# Altium integrated library National Semiconductor Audio.IntLib: 683 symbols (part 12 of 18)
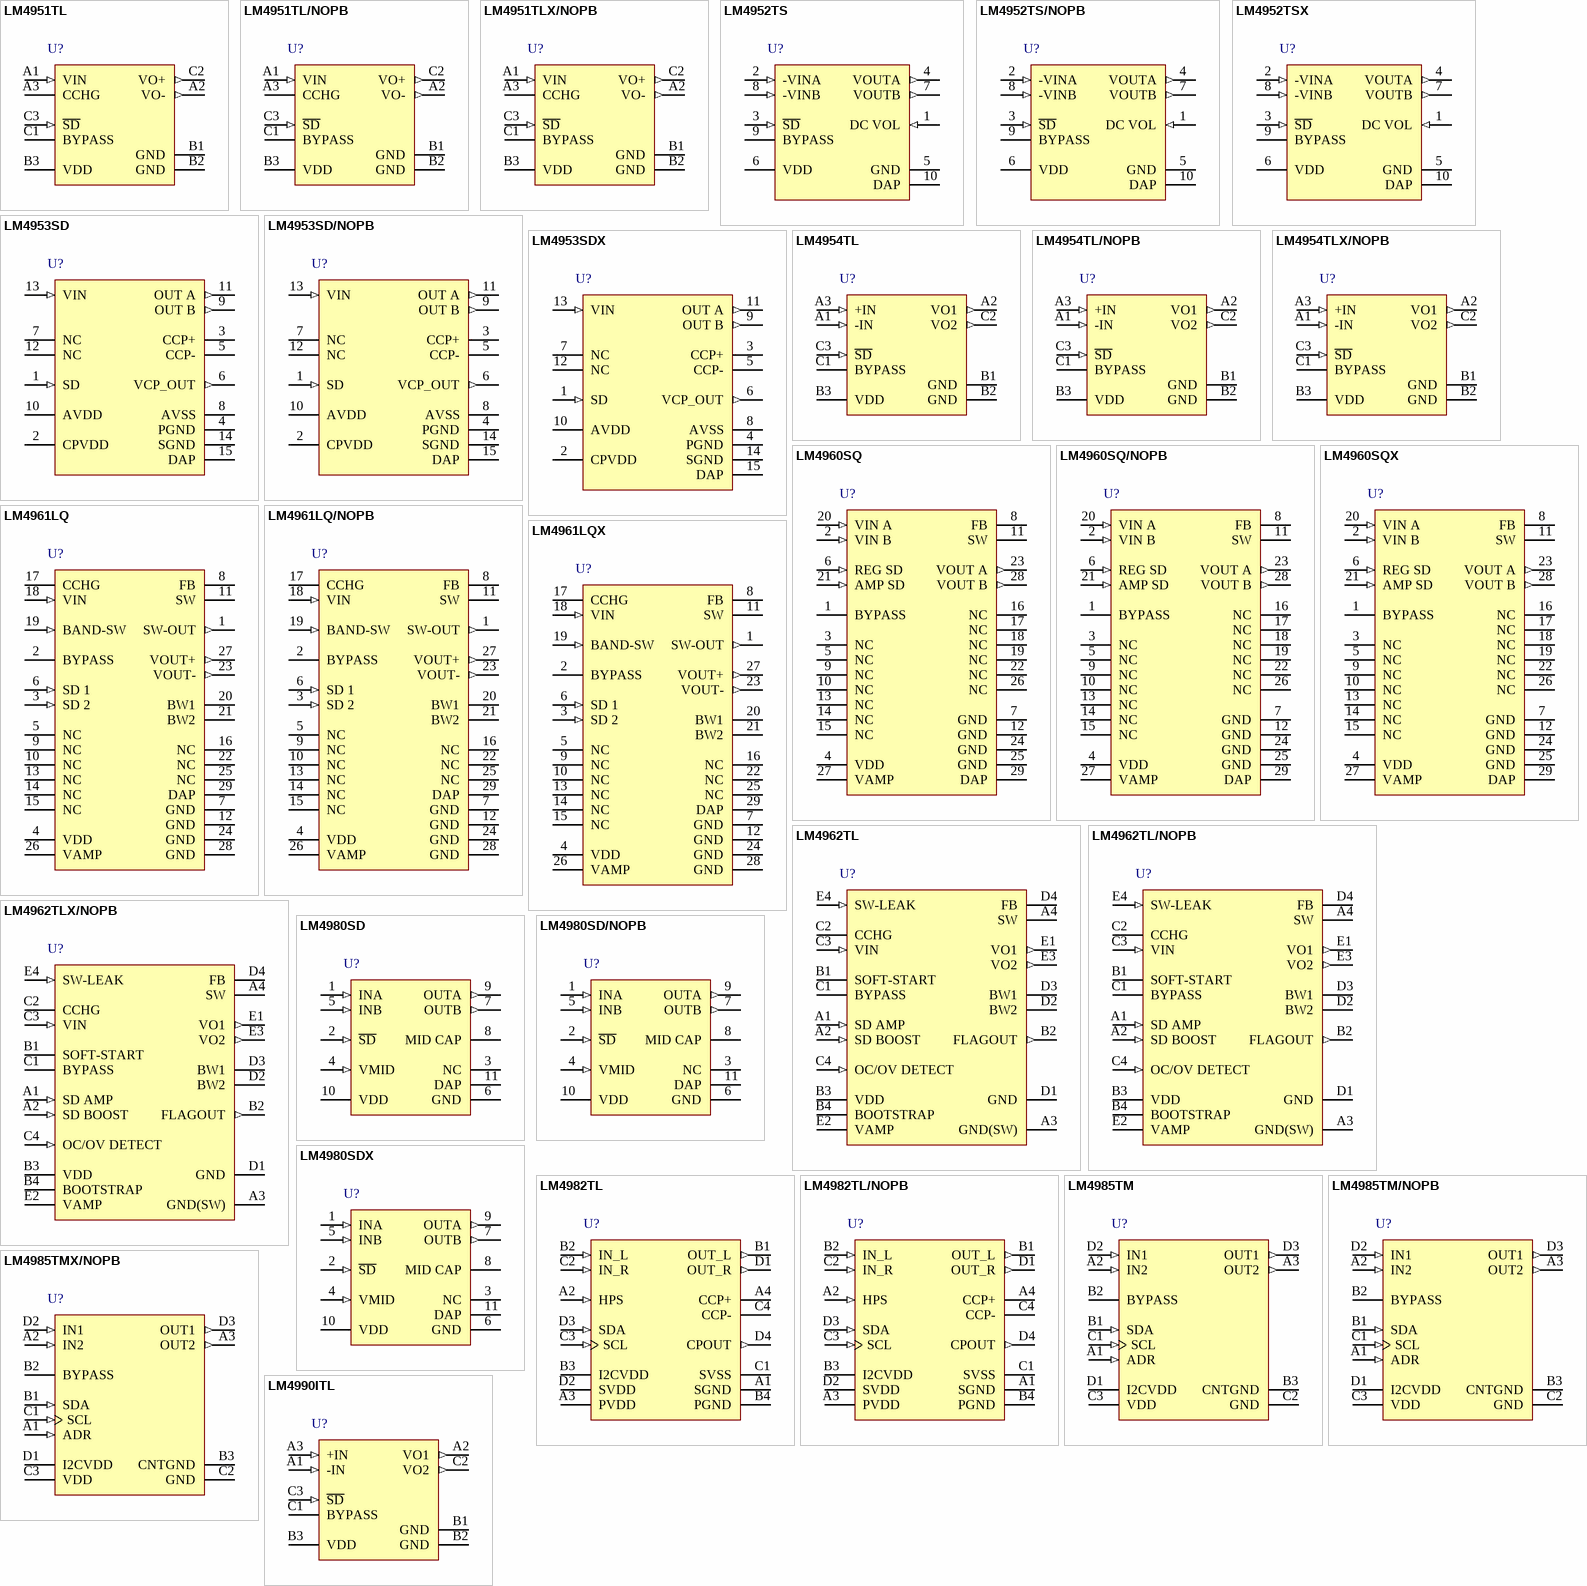
[diagram p37: symbols LM4951TL to LM4990ITL]

## LM4961LQX
designator U?
Ceramic Speaker Driver, 28-pin LLP; PartNumber: LM4961LQX; Manufacturer: National Semiconductor; PackageTopMarking: NS*UZXYTT*L4961LQ; PowerWise: N; CompType: Audio IC; High-Reliability: Y; DatasheetVersion: Dec-2006; PackageVersion: revB, Jul-2001; PackageReference: LQA28A; PackageDescription: LLP, Plastic, Quad, 5 x 5 x 0.75mm Body, 28 Lead, 0.5mm Pitch; RoHS: N; PinCount: 28; Code_JEDEC: MO-220-WHHD-1; ComponentLink1Description: Manufacturer URL; ComponentLink1URL: http://www.national.com/; ComponentLink2Description: LM4961 Datasheet; ComponentLink2URL: http://www.national.com/ds/LM/LM4961.pdf; ComponentLink3Description: LM4961 Web Page; ComponentLink3URL: http://www.national.com/pf/LM/LM4961.html; ComponentLink4Description: LQA28A Package Page; ComponentLink4URL: http://www.national.com/packaging/folders/lqa28a.html
footprint LQA28A (PQFN, 28-Leads, Body 5x5mm, Pitch 0.5mm, Thermal Pad 3.3x3.3mm, NSC Recommended)
pins: 1 SW-OUT (out), 2 BYPASS, 3 SD 2 (in), 4 VDD (power), 5 NC, 6 SD 1 (in), 7 GND (power), 8 FB, 9 NC, 10 NC, 11 SW, 12 GND (power), 13 NC, 14 NC, 15 NC, 16 NC, 17 CCHG, 18 VIN (in), 19 BAND-SW (in), 20 BW1, 21 BW2, 22 NC, 23 VOUT- (out), 24 GND (power), 25 NC, 26 VAMP (power), 27 VOUT+ (out), 28 GND (power), 29 DAP (power)

## LM4962TL
designator U?
Ceramic Speaker Driver, 20-pin Micro SMD; PartNumber: LM4962TL; Manufacturer: National Semiconductor; PackageTopMarking: XYTT*I GF7; PowerWise: N; CompType: Audio IC; High-Reliability: Y; DatasheetVersion: Mar-2006; PackageVersion: revC, Jan-2004; PackageReference: TLA2011A; PackageDescription: Thin Micro SMD, 20 Bump (Large), 0.5mm Pitch; RoHS: Y; PinCount: 20; Code_JEDEC: MO-211-DG; ComponentLink1Description: Manufacturer URL; ComponentLink1URL: http://www.national.com/; ComponentLink2Description: LM4962 Datasheet; ComponentLink2URL: http://www.national.com/ds/LM/LM4962.pdf; ComponentLink3Description: LM4962 Web Page; ComponentLink3URL: http://www.national.com/pf/LM/LM4962.html; ComponentLink4Description: TLA2011A Package Page; ComponentLink4URL: http://www.national.com/packaging/folders/tla2011a.html
footprint TLA2011A (Micro SMD, 20-Leads, Body 2.47x1.97mm, Pitch 0.5mm, NSC Recommended)
pins: A1 SD AMP (in), A2 SD BOOST (in), A3 GND(SW) (power), A4 SW, B1 SOFT-START, B2 FLAGOUT (out), B3 VDD (power), B4 BOOTSTRAP (power), C1 BYPASS, C2 CCHG, C3 VIN (in), C4 OC/OV DETECT (in), D1 GND (power), D2 BW2, D3 BW1, D4 FB, E1 VO1 (out), E2 VAMP (power), E3 VO2 (out), E4 SW-LEAK (in)

## LM4962TL/NOPB
designator U?
Ceramic Speaker Driver, 20-pin Micro SMD, Pb-Free; PartNumber: LM4962TL/NOPB; Manufacturer: National Semiconductor; PackageTopMarking: XYTT*I GF7; PowerWise: N; CompType: Audio IC; High-Reliability: Y; DatasheetVersion: Mar-2006; PackageVersion: revC, Jan-2004; PackageReference: TLA2011A; PackageDescription: Thin Micro SMD, 20 Bump (Large), 0.5mm Pitch; RoHS: Y; PinCount: 20; Code_JEDEC: MO-211-DG; ComponentLink1Description: Manufacturer URL; ComponentLink1URL: http://www.national.com/; ComponentLink2Description: LM4962 Datasheet; ComponentLink2URL: http://www.national.com/ds/LM/LM4962.pdf; ComponentLink3Description: LM4962 Web Page; ComponentLink3URL: http://www.national.com/pf/LM/LM4962.html; ComponentLink4Description: TLA2011A Package Page; ComponentLink4URL: http://www.national.com/packaging/folders/tla2011a.html
footprint TLA2011A (Micro SMD, 20-Leads, Body 2.47x1.97mm, Pitch 0.5mm, NSC Recommended)
pins: A1 SD AMP (in), A2 SD BOOST (in), A3 GND(SW) (power), A4 SW, B1 SOFT-START, B2 FLAGOUT (out), B3 VDD (power), B4 BOOTSTRAP (power), C1 BYPASS, C2 CCHG, C3 VIN (in), C4 OC/OV DETECT (in), D1 GND (power), D2 BW2, D3 BW1, D4 FB, E1 VO1 (out), E2 VAMP (power), E3 VO2 (out), E4 SW-LEAK (in)

## LM4962TLX/NOPB
designator U?
Ceramic Speaker Driver, 20-pin Micro SMD, Pb-Free; PartNumber: LM4962TLX/NOPB; Manufacturer: National Semiconductor; PackageTopMarking: XYTT*I GF7; PowerWise: N; CompType: Audio IC; High-Reliability: Y; DatasheetVersion: Mar-2006; PackageVersion: revC, Jan-2004; PackageReference: TLA2011A; PackageDescription: Thin Micro SMD, 20 Bump (Large), 0.5mm Pitch; RoHS: Y; PinCount: 20; Code_JEDEC: MO-211-DG; ComponentLink1Description: Manufacturer URL; ComponentLink1URL: http://www.national.com/; ComponentLink2Description: LM4962 Datasheet; ComponentLink2URL: http://www.national.com/ds/LM/LM4962.pdf; ComponentLink3Description: LM4962 Web Page; ComponentLink3URL: http://www.national.com/pf/LM/LM4962.html; ComponentLink4Description: TLA2011A Package Page; ComponentLink4URL: http://www.national.com/packaging/folders/tla2011a.html
footprint TLA2011A (Micro SMD, 20-Leads, Body 2.47x1.97mm, Pitch 0.5mm, NSC Recommended)
pins: A1 SD AMP (in), A2 SD BOOST (in), A3 GND(SW) (power), A4 SW, B1 SOFT-START, B2 FLAGOUT (out), B3 VDD (power), B4 BOOTSTRAP (power), C1 BYPASS, C2 CCHG, C3 VIN (in), C4 OC/OV DETECT (in), D1 GND (power), D2 BW2, D3 BW1, D4 FB, E1 VO1 (out), E2 VAMP (power), E3 VO2 (out), E4 SW-LEAK (in)

## LM4980SD
designator U?
2 Cell Battery, 1mA, 42mW Per Channel High Fidelity Stereo Headphone Audio Amplifier for MP3 players, 11-pin LLP; PartNumber: LM4980SD; Manufacturer: National Semiconductor; PackageTopMarking: ZXYTT*L4980; PowerWise: Y; CompType: Audio IC; DatasheetVersion: Jul-2005; PackageVersion: revA, Oct-2003; PackageReference: SDA10A; PackageDescription: LLP, Plastic, Dual, 3 x 3 x 0.8mm Body, 10 Lead, 0.5mm Pitch, No Pullback; RoHS: N; PinCount: 10; High-Reliability: Y; ComponentLink1Description: Manufacturer URL; ComponentLink1URL: http://www.national.com/; ComponentLink2Description: LM4980 Datasheet; ComponentLink2URL: http://www.national.com/ds/LM/LM4980.pdf; ComponentLink3Description: LM4980 Web Page; ComponentLink3URL: http://www.national.com/pf/LM/LM4980.html; ComponentLink4Description: SDA10A Package Page; ComponentLink4URL: http://www.national.com/packaging/folders/sda10a.html
footprint SDA10A (SON, 10-Leads, Body 3x3 mm, Pitch 0.5mm, NSC Recommended)
pins: 1 INA (in), 2 ~{SD} (in), 3 NC, 4 VMID (in), 5 INB (in), 6 GND (power), 7 OUTB (out), 8 MID CAP, 9 OUTA (out), 10 VDD (power), 11 DAP (power)

## LM4980SD/NOPB
designator U?
2 Cell Battery, 1mA, 42mW Per Channel High Fidelity Stereo Headphone Audio Amplifier for MP3 players, 10-pin LLP, Pb-Free; PartNumber: LM4980SD/NOPB; Manufacturer: National Semiconductor; PackageTopMarking: ZXYTT*L4980; PowerWise: Y; CompType: Audio IC; DatasheetVersion: Jul-2005; PackageVersion: revA, Oct-2003; PackageReference: SDA10A; PackageDescription: LLP, Plastic, Dual, 3 x 3 x 0.8mm Body, 10 Lead, 0.5mm Pitch, No Pullback; RoHS: Y; PinCount: 10; High-Reliability: Y; ComponentLink1Description: Manufacturer URL; ComponentLink1URL: http://www.national.com/; ComponentLink2Description: LM4980 Datasheet; ComponentLink2URL: http://www.national.com/ds/LM/LM4980.pdf; ComponentLink3Description: LM4980 Web Page; ComponentLink3URL: http://www.national.com/pf/LM/LM4980.html; ComponentLink4Description: SDA10A Package Page; ComponentLink4URL: http://www.national.com/packaging/folders/sda10a.html
footprint SDA10A (SON, 10-Leads, Body 3x3 mm, Pitch 0.5mm, NSC Recommended)
pins: 1 INA (in), 2 ~{SD} (in), 3 NC, 4 VMID (in), 5 INB (in), 6 GND (power), 7 OUTB (out), 8 MID CAP, 9 OUTA (out), 10 VDD (power), 11 DAP (power)

## LM4980SDX
designator U?
2 Cell Battery, 1mA, 42mW Per Channel High Fidelity Stereo Headphone Audio Amplifier for MP3 players, 10-pin LLP; PartNumber: LM4980SDX; Manufacturer: National Semiconductor; PackageTopMarking: ZXYTT*L4980; PowerWise: Y; CompType: Audio IC; DatasheetVersion: Jul-2005; PackageVersion: revA, Oct-2003; PackageReference: SDA10A; PackageDescription: LLP, Plastic, Dual, 3 x 3 x 0.8mm Body, 10 Lead, 0.5mm Pitch, No Pullback; RoHS: N; PinCount: 10; High-Reliability: Y; ComponentLink1Description: Manufacturer URL; ComponentLink1URL: http://www.national.com/; ComponentLink2Description: LM4980 Datasheet; ComponentLink2URL: http://www.national.com/ds/LM/LM4980.pdf; ComponentLink3Description: LM4980 Web Page; ComponentLink3URL: http://www.national.com/pf/LM/LM4980.html; ComponentLink4Description: SDA10A Package Page; ComponentLink4URL: http://www.national.com/packaging/folders/sda10a.html
footprint SDA10A (SON, 10-Leads, Body 3x3 mm, Pitch 0.5mm, NSC Recommended)
pins: 1 INA (in), 2 ~{SD} (in), 3 NC, 4 VMID (in), 5 INB (in), 6 GND (power), 7 OUTB (out), 8 MID CAP, 9 OUTA (out), 10 VDD (power), 11 DAP (power)

## LM4982TL
designator U?
Ground-Referenced, Ultra Low Noise, 80mW Stereo Headphone Amplifier with IntelliSense and I2C Volume Control, 16-pin Micro SMD; PartNumber: LM4982TL; Manufacturer: National Semiconductor; PackageTopMarking: XYTT*I GG3; PowerWise: N; CompType: Audio IC; High-Reliability: Y; DatasheetVersion: Jul-2006; PackageVersion: revC, Jan-2004; PackageReference: TLA1611A; PackageDescription: Thin Micro SMD, 16 Bump (Large), 0.5mm Pitch; RoHS: Y; PinCount: 16; Code_JEDEC: MO-211-DF; ComponentLink1Description: Manufacturer URL; ComponentLink1URL: http://www.national.com/; ComponentLink2Description: LM4982 Datasheet; ComponentLink2URL: http://www.national.com/ds/LM/LM4982.pdf; ComponentLink3Description: LM4982 Web Page; ComponentLink3URL: http://www.national.com/pf/LM/LM4982.html; ComponentLink4Description: TLA1611A Package Page; ComponentLink4URL: http://www.national.com/packaging/folders/tla1611a.html
footprint TLA1611A (Micro SMD, 16-Leads, Body 1.97x1.97mm, Pitch 0.5mm, NSC Recommended)
pins: A1 SGND (power), A2 HPS (in), A3 PVDD (power), A4 CCP+, B1 OUT_L (out), B2 IN_L (in), B3 I2CVDD (power), B4 PGND (power), C1 SVSS (power), C2 IN_R (in), C3 SCL (in), C4 CCP-, D1 OUT_R (out), D2 SVDD (power), D3 SDA (in), D4 CPOUT (out)

## LM4982TL/NOPB
designator U?
Ground-Referenced, Ultra Low Noise, 80mW Stereo Headphone Amplifier with IntelliSense and I2C Volume Control, 16-pin Micro SMD, Pb-Free; PartNumber: LM4982TL/NOPB; Manufacturer: National Semiconductor; PackageTopMarking: XYTT*I GG3; PowerWise: N; CompType: Audio IC; High-Reliability: Y; DatasheetVersion: Jul-2006; PackageVersion: revC, Jan-2004; PackageReference: TLA1611A; PackageDescription: Thin Micro SMD, 16 Bump (Large), 0.5mm Pitch; RoHS: Y; PinCount: 16; Code_JEDEC: MO-211-DF; ComponentLink1Description: Manufacturer URL; ComponentLink1URL: http://www.national.com/; ComponentLink2Description: LM4982 Datasheet; ComponentLink2URL: http://www.national.com/ds/LM/LM4982.pdf; ComponentLink3Description: LM4982 Web Page; ComponentLink3URL: http://www.national.com/pf/LM/LM4982.html; ComponentLink4Description: TLA1611A Package Page; ComponentLink4URL: http://www.national.com/packaging/folders/tla1611a.html
footprint TLA1611A (Micro SMD, 16-Leads, Body 1.97x1.97mm, Pitch 0.5mm, NSC Recommended)
pins: A1 SGND (power), A2 HPS (in), A3 PVDD (power), A4 CCP+, B1 OUT_L (out), B2 IN_L (in), B3 I2CVDD (power), B4 PGND (power), C1 SVSS (power), C2 IN_R (in), C3 SCL (in), C4 CCP-, D1 OUT_R (out), D2 SVDD (power), D3 SDA (in), D4 CPOUT (out)

## LM4985TM
designator U?
Stereo 135mW Low Noise Headphone Amplifier with Selectable Capacitive Coupled or OCL Output and Digitally Controlled (I2C) Volume Control, 12-pin Micro SMD; PartNumber: LM4985TM; Manufacturer: National Semiconductor; PackageTopMarking: XVG*I H2; PowerWise: N; CompType: Audio IC; High-Reliability: Y; DatasheetVersion: May-2006; PackageVersion: revA, 2008; PackageReference: TMD12AAA; PackageDescription: Thin Micro SMD, 12 Bump, 0.4mm Pitch; RoHS: Y; PinCount: 12; ComponentLink1Description: Manufacturer URL; ComponentLink1URL: http://www.national.com/; ComponentLink2Description: LM4985 Datasheet; ComponentLink2URL: http://www.national.com/ds/LM/LM4985.pdf; ComponentLink3Description: LM4985 Web Page; ComponentLink3URL: http://www.national.com/pf/LM/LM4985.html
footprint TMD12AAA (Micro SMD, 12-Leads, Body 1.62x1.22mm, Pitch 0.4mm, NSC Recommended)
pins: A1 ADR (in), A2 IN2 (in), A3 OUT2 (out), B1 SDA (in), B2 BYPASS, B3 CNTGND (power), C1 SCL (in), C2 GND (power), C3 VDD (power), D1 I2CVDD (power), D2 IN1 (in), D3 OUT1 (out)

## LM4985TM/NOPB
designator U?
Stereo 135mW Low Noise Headphone Amplifier with Selectable Capacitive Coupled or OCL Output and Digitally Controlled (I2C) Volume Control, 12-pin Micro SMD, Pb-Free; PartNumber: LM4985TM/NOPB; Manufacturer: National Semiconductor; PackageTopMarking: XVG*I H2; PowerWise: N; CompType: Audio IC; High-Reliability: Y; DatasheetVersion: May-2006; PackageVersion: revA, 2008; PackageReference: TMD12AAA; PackageDescription: Thin Micro SMD, 12 Bump, 0.4mm Pitch; RoHS: Y; PinCount: 12; ComponentLink1Description: Manufacturer URL; ComponentLink1URL: http://www.national.com/; ComponentLink2Description: LM4985 Datasheet; ComponentLink2URL: http://www.national.com/ds/LM/LM4985.pdf; ComponentLink3Description: LM4985 Web Page; ComponentLink3URL: http://www.national.com/pf/LM/LM4985.html; ComponentLink4Description: TMD12AAA Package Page; ComponentLink4URL: http://www.national.com/packaging/folders/tmd12aaa.html
footprint TMD12AAA (Micro SMD, 12-Leads, Body 1.62x1.22mm, Pitch 0.4mm, NSC Recommended)
pins: A1 ADR (in), A2 IN2 (in), A3 OUT2 (out), B1 SDA (in), B2 BYPASS, B3 CNTGND (power), C1 SCL (in), C2 GND (power), C3 VDD (power), D1 I2CVDD (power), D2 IN1 (in), D3 OUT1 (out)

## LM4985TMX/NOPB
designator U?
Stereo 135mW Low Noise Headphone Amplifier with Selectable Capacitive Coupled or OCL Output and Digitally Controlled (I2C) Volume Control, 12-pin Micro SMD, Pb-Free; PartNumber: LM4985TMX/NOPB; Manufacturer: National Semiconductor; PackageTopMarking: XVG*I H2; PowerWise: N; CompType: Audio IC; High-Reliability: Y; DatasheetVersion: May-2006; PackageVersion: revA, 2008; PackageReference: TMD12AAA; PackageDescription: Thin Micro SMD, 12 Bump, 0.4mm Pitch; RoHS: Y; PinCount: 12; ComponentLink1Description: Manufacturer URL; ComponentLink1URL: http://www.national.com/; ComponentLink2Description: LM4985 Datasheet; ComponentLink2URL: http://www.national.com/ds/LM/LM4985.pdf; ComponentLink3Description: LM4985 Web Page; ComponentLink3URL: http://www.national.com/pf/LM/LM4985.html; ComponentLink4Description: TMD12AAA Package Page; ComponentLink4URL: http://www.national.com/packaging/folders/tmd12aaa.html
footprint TMD12AAA (Micro SMD, 12-Leads, Body 1.62x1.22mm, Pitch 0.4mm, NSC Recommended)
pins: A1 ADR (in), A2 IN2 (in), A3 OUT2 (out), B1 SDA (in), B2 BYPASS, B3 CNTGND (power), C1 SCL (in), C2 GND (power), C3 VDD (power), D1 I2CVDD (power), D2 IN1 (in), D3 OUT1 (out)

## LM4990ITL
designator U?
2W Audio Power Amplifier with Selectable Shutdown Logic Level, 9-pin Micro SMD; PartNumber: LM4990ITL; Manufacturer: National Semiconductor; PackageTopMarking: XVG*I D2; PowerWise: N; CompType: Audio IC; High-Reliability: Y; DatasheetVersion: Oct-2004; PackageVersion: revC, Jan-2004; PackageReference: TLA09ZZA; PackageDescription: Thin Micro SMD, 9 Bump (Large), 0.5mm Pitch; RoHS: Y; PinCount: 9; Code_JEDEC: MO-211-DD; ComponentLink1Description: Manufacturer URL; ComponentLink1URL: http://www.national.com/; ComponentLink2Description: LM4990 Datasheet; ComponentLink2URL: http://www.national.com/ds/LM/LM4990.pdf; ComponentLink3Description: LM4990 Web Page; ComponentLink3URL: http://www.national.com/pf/LM/LM4990.html; ComponentLink4Description: TLA09ZZA Package Page; ComponentLink4URL: http://www.national.com/packaging/folders/tla09zza.html
footprint TLA09ZZA (Micro SMD, 9-Leads, Body 1.47x1.47mm, Pitch 0.5mm, NSC Recommended)
pins: A1 -IN (in), A2 VO1 (out), A3 +IN (in), B1 GND (power), B2 GND (power), B3 VDD (power), C1 BYPASS, C2 VO2 (out), C3 ~{SD} (in)

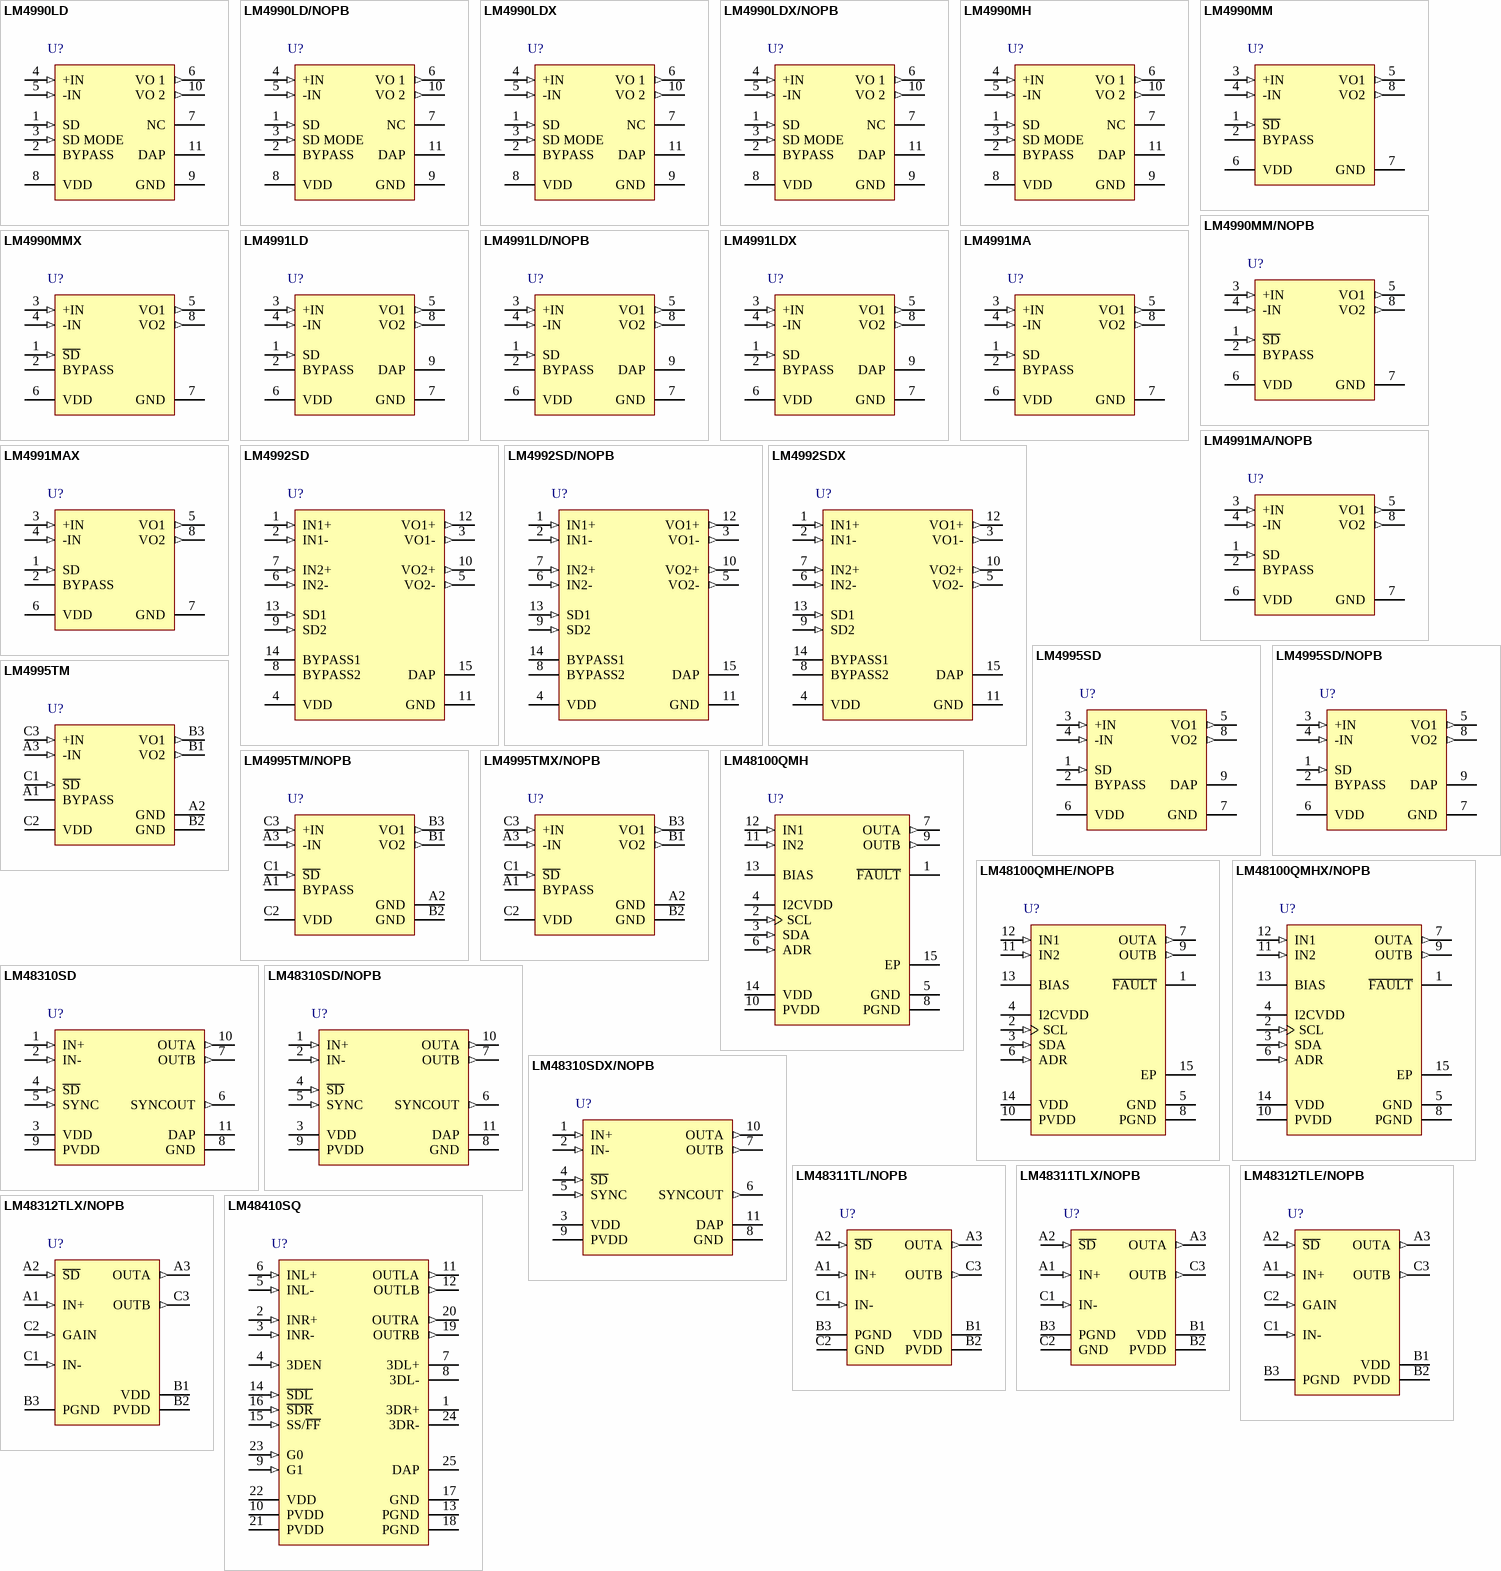
[diagram p17: symbols LM4990LD to LM48410SQ]

## LM4990LD
designator U?
2W Audio Power Amplifier with Selectable Shutdown Logic Level, 11-pin LLP; PartNumber: LM4990LD; Manufacturer: National Semiconductor; PackageTopMarking: ZXYTT*L4990; PowerWise: N; CompType: Audio IC; High-Reliability: Y; DatasheetVersion: Oct-2004; PackageVersion: revB, Jun-2003; PackageReference: LDA10B; PackageDescription: LLP, Plastic, Dual, 3 x 4 x 0.75mm Body, 10 Lead, 0.5mm Pitch; RoHS: N; PinCount: 10; Code_JEDEC: MO-229-WEGD; ComponentLink1Description: Manufacturer URL; ComponentLink1URL: http://www.national.com/; ComponentLink2Description: LM4990 Datasheet; ComponentLink2URL: http://www.national.com/ds/LM/LM4990.pdf; ComponentLink3Description: LM4990 Web Page; ComponentLink3URL: http://www.national.com/pf/LM/LM4990.html; ComponentLink4Description: LDA10B Package Page; ComponentLink4URL: http://www.national.com/packaging/folders/lda10b.html
footprint LDA10B (PSON, 10-Leads, Body 3x4mm, Pitch 0.5mm, NSC Recommended)
pins: 1 SD (in), 2 BYPASS, 3 SD MODE (in), 4 +IN (in), 5 -IN (in), 6 VO 1 (out), 7 NC, 8 VDD (power), 9 GND (power), 10 VO 2 (out), 11 DAP (power)

## LM4990LD/NOPB
designator U?
2W Audio Power Amplifier with Selectable Shutdown Logic Level, 10-pin LLP, Pb-Free; PartNumber: LM4990LD/NOPB; Manufacturer: National Semiconductor; PackageTopMarking: ZXYTT*L4990; PowerWise: N; CompType: Audio IC; High-Reliability: Y; DatasheetVersion: Oct-2004; PackageVersion: revB, Jun-2003; PackageReference: LDA10B; PackageDescription: LLP, Plastic, Dual, 3 x 4 x 0.75mm Body, 10 Lead, 0.5mm Pitch; RoHS: Y; PinCount: 10; Code_JEDEC: MO-229-WEGD; ComponentLink1Description: Manufacturer URL; ComponentLink1URL: http://www.national.com/; ComponentLink2Description: LM4990 Datasheet; ComponentLink2URL: http://www.national.com/ds/LM/LM4990.pdf; ComponentLink3Description: LM4990 Web Page; ComponentLink3URL: http://www.national.com/pf/LM/LM4990.html; ComponentLink4Description: LDA10B Package Page; ComponentLink4URL: http://www.national.com/packaging/folders/lda10b.html
footprint LDA10B (PSON, 10-Leads, Body 3x4mm, Pitch 0.5mm, NSC Recommended)
pins: 1 SD (in), 2 BYPASS, 3 SD MODE (in), 4 +IN (in), 5 -IN (in), 6 VO 1 (out), 7 NC, 8 VDD (power), 9 GND (power), 10 VO 2 (out), 11 DAP (power)

## LM4990LDX
designator U?
2W Audio Power Amplifier with Selectable Shutdown Logic Level, 10-pin LLP; PartNumber: LM4990LDX; Manufacturer: National Semiconductor; PackageTopMarking: ZXYTT*L4990; PowerWise: N; CompType: Audio IC; High-Reliability: Y; DatasheetVersion: Oct-2004; PackageVersion: revB, Jun-2003; PackageReference: LDA10B; PackageDescription: LLP, Plastic, Dual, 3 x 4 x 0.75mm Body, 10 Lead, 0.5mm Pitch; RoHS: N; PinCount: 10; Code_JEDEC: MO-229-WEGD; ComponentLink1Description: Manufacturer URL; ComponentLink1URL: http://www.national.com/; ComponentLink2Description: LM4990 Datasheet; ComponentLink2URL: http://www.national.com/ds/LM/LM4990.pdf; ComponentLink3Description: LM4990 Web Page; ComponentLink3URL: http://www.national.com/pf/LM/LM4990.html; ComponentLink4Description: LDA10B Package Page; ComponentLink4URL: http://www.national.com/packaging/folders/lda10b.html
footprint LDA10B (PSON, 10-Leads, Body 3x4mm, Pitch 0.5mm, NSC Recommended)
pins: 1 SD (in), 2 BYPASS, 3 SD MODE (in), 4 +IN (in), 5 -IN (in), 6 VO 1 (out), 7 NC, 8 VDD (power), 9 GND (power), 10 VO 2 (out), 11 DAP (power)

## LM4990LDX/NOPB
designator U?
2W Audio Power Amplifier with Selectable Shutdown Logic Level, 10-pin LLP, Pb-Free; PartNumber: LM4990LDX/NOPB; Manufacturer: National Semiconductor; PackageTopMarking: ZXYTT*L4990; PowerWise: N; CompType: Audio IC; High-Reliability: Y; DatasheetVersion: Oct-2004; PackageVersion: revB, Jun-2003; PackageReference: LDA10B; PackageDescription: LLP, Plastic, Dual, 3 x 4 x 0.75mm Body, 10 Lead, 0.5mm Pitch; RoHS: Y; PinCount: 10; Code_JEDEC: MO-229-WEGD; ComponentLink1Description: Manufacturer URL; ComponentLink1URL: http://www.national.com/; ComponentLink2Description: LM4990 Datasheet; ComponentLink2URL: http://www.national.com/ds/LM/LM4990.pdf; ComponentLink3Description: LM4990 Web Page; ComponentLink3URL: http://www.national.com/pf/LM/LM4990.html; ComponentLink4Description: LDA10B Package Page; ComponentLink4URL: http://www.national.com/packaging/folders/lda10b.html
footprint LDA10B (PSON, 10-Leads, Body 3x4mm, Pitch 0.5mm, NSC Recommended)
pins: 1 SD (in), 2 BYPASS, 3 SD MODE (in), 4 +IN (in), 5 -IN (in), 6 VO 1 (out), 7 NC, 8 VDD (power), 9 GND (power), 10 VO 2 (out), 11 DAP (power)

## LM4990MH
designator U?
2W Audio Power Amplifier with Selectable Shutdown Logic Level, 11-pin TSSOP-EP; PartNumber: LM4990MH; Manufacturer: National Semiconductor; PackageTopMarking: ZXTT*4990; PowerWise: N; CompType: Audio IC; High-Reliability: Y; DatasheetVersion: Oct-2004; PackageVersion: revA, Feb-2002; PackageReference: MXF10A; PackageDescription: Molded TSSOP, Exposed Pad, 3 x 3 x .85mm Body, 10 Lead, 0.5mm Pitch; RoHS: N; PinCount: 10; Code_JEDEC: MO-187-BA; ComponentLink1Description: Manufacturer URL; ComponentLink1URL: http://www.national.com/; ComponentLink2Description: LM4990 Datasheet; ComponentLink2URL: http://www.national.com/ds/LM/LM4990.pdf; ComponentLink3Description: LM4990 Web Page; ComponentLink3URL: http://www.national.com/pf/LM/LM4990.html; ComponentLink4Description: MXF10A Package Page; ComponentLink4URL: http://www.national.com/packaging/folders/mxf10a.html
footprint MXF10A_N (TSSOP, 10-Leads, Body 3x3mm, Pitch 0.5mm, Exposed Pad, IPC Medium Density)
footprint MXF10A_L (TSSOP, 10-Leads, Body 3x3mm, Pitch 0.5mm, Exposed Pad, IPC High Density)
footprint MXF10A_M (TSSOP, 10-Leads, Body 3x3mm, Pitch 0.5mm, Exposed Pad, IPC Low Density)
pins: 1 SD (in), 2 BYPASS, 3 SD MODE (in), 4 +IN (in), 5 -IN (in), 6 VO 1 (out), 7 NC, 8 VDD (power), 9 GND (power), 10 VO 2 (out), 11 DAP (power)

## LM4990MM
designator U?
2W Audio Power Amplifier with Selectable Shutdown Logic Level, 8-pin Mini SOIC; PartNumber: LM4990MM; Manufacturer: National Semiconductor; PackageTopMarking: ZXTT*GA5; PowerWise: N; CompType: Audio IC; High-Reliability: Y; DatasheetVersion: Oct-2004; PackageVersion: revF, Apr-2008; PackageReference: MUA08A; PackageDescription: MINI SOIC, .118 x .118 x .034in, 8 Lead, .0256in Pitch; RoHS: N; PinCount: 8; Code_JEDEC: MO-187-AA; ComponentLink1Description: Manufacturer URL; ComponentLink1URL: http://www.national.com/; ComponentLink2Description: LM4990 Datasheet; ComponentLink2URL: http://www.national.com/ds/LM/LM4990.pdf; ComponentLink3Description: LM4990 Web Page; ComponentLink3URL: http://www.national.com/pf/LM/LM4990.html; ComponentLink4Description: MUA08A Package Page; ComponentLink4URL: http://www.national.com/packaging/folders/mua08a.html
footprint MUA08A_N (TSOP, 8-Leads, Body 3x3mm, Pitch 0.65mm, IPC Medium Density)
footprint MUA08A_L (TSOP, 8-Leads, Body 3x3mm, Pitch 0.65mm, IPC High Density)
footprint MUA08A_M (TSOP, 8-Leads, Body 3x3mm, Pitch 0.65mm, IPC Low Density)
pins: 1 ~{SD} (in), 2 BYPASS, 3 +IN (in), 4 -IN (in), 5 VO1 (out), 6 VDD (power), 7 GND (power), 8 VO2 (out)

## LM4990MM/NOPB
designator U?
2W Audio Power Amplifier with Selectable Shutdown Logic Level, 8-pin Mini SOIC, Pb-Free; PartNumber: LM4990MM/NOPB; Manufacturer: National Semiconductor; PackageTopMarking: ZXTT*GA5; PowerWise: N; CompType: Audio IC; High-Reliability: Y; DatasheetVersion: Oct-2004; PackageVersion: revF, Apr-2008; PackageReference: MUA08A; PackageDescription: MINI SOIC, .118 x .118 x .034in, 8 Lead, .0256in Pitch; RoHS: Y; PinCount: 8; Code_JEDEC: MO-187-AA; ComponentLink1Description: Manufacturer URL; ComponentLink1URL: http://www.national.com/; ComponentLink2Description: LM4990 Datasheet; ComponentLink2URL: http://www.national.com/ds/LM/LM4990.pdf; ComponentLink3Description: LM4990 Web Page; ComponentLink3URL: http://www.national.com/pf/LM/LM4990.html; ComponentLink4Description: MUA08A Package Page; ComponentLink4URL: http://www.national.com/packaging/folders/mua08a.html
footprint MUA08A_N (TSOP, 8-Leads, Body 3x3mm, Pitch 0.65mm, IPC Medium Density)
footprint MUA08A_L (TSOP, 8-Leads, Body 3x3mm, Pitch 0.65mm, IPC High Density)
footprint MUA08A_M (TSOP, 8-Leads, Body 3x3mm, Pitch 0.65mm, IPC Low Density)
pins: 1 ~{SD} (in), 2 BYPASS, 3 +IN (in), 4 -IN (in), 5 VO1 (out), 6 VDD (power), 7 GND (power), 8 VO2 (out)

## LM4990MMX
designator U?
2W Audio Power Amplifier with Selectable Shutdown Logic Level, 8-pin Mini SOIC; PartNumber: LM4990MMX; Manufacturer: National Semiconductor; PackageTopMarking: ZXTT*GA5; PowerWise: N; CompType: Audio IC; High-Reliability: Y; DatasheetVersion: Oct-2004; PackageVersion: revF, Apr-2008; PackageReference: MUA08A; PackageDescription: MINI SOIC, .118 x .118 x .034in, 8 Lead, .0256in Pitch; RoHS: N; PinCount: 8; Code_JEDEC: MO-187-AA; ComponentLink1Description: Manufacturer URL; ComponentLink1URL: http://www.national.com/; ComponentLink2Description: LM4990 Datasheet; ComponentLink2URL: http://www.national.com/ds/LM/LM4990.pdf; ComponentLink3Description: LM4990 Web Page; ComponentLink3URL: http://www.national.com/pf/LM/LM4990.html; ComponentLink4Description: MUA08A Package Page; ComponentLink4URL: http://www.national.com/packaging/folders/mua08a.html
footprint MUA08A_N (TSOP, 8-Leads, Body 3x3mm, Pitch 0.65mm, IPC Medium Density)
footprint MUA08A_L (TSOP, 8-Leads, Body 3x3mm, Pitch 0.65mm, IPC High Density)
footprint MUA08A_M (TSOP, 8-Leads, Body 3x3mm, Pitch 0.65mm, IPC Low Density)
pins: 1 ~{SD} (in), 2 BYPASS, 3 +IN (in), 4 -IN (in), 5 VO1 (out), 6 VDD (power), 7 GND (power), 8 VO2 (out)

## LM4991LD
designator U?
3W Audio Power Amplifier with Shutdown Mode, 9-pin LLP; PartNumber: LM4991LD; Manufacturer: National Semiconductor; PackageTopMarking: NS*UZXYTT*L4991; PowerWise: N; CompType: Audio IC; High-Reliability: Y; DatasheetVersion: May-2003; PackageVersion: revB, Jun-2003; PackageReference: LDC08A; PackageDescription: LLP, Plastic, Dual, 4 x 4 x 0.75mm Body, 8 Lead, 0.8mm Pitch; RoHS: N; PinCount: 8; ComponentLink1Description: Manufacturer URL; ComponentLink1URL: http://www.national.com/; ComponentLink2Description: LM4991 Datasheet; ComponentLink2URL: http://www.national.com/ds/LM/LM4991.pdf; ComponentLink3Description: LM4991 Web Page; ComponentLink3URL: http://www.national.com/pf/LM/LM4991.html; ComponentLink4Description: LDC08A Package Page; ComponentLink4URL: http://www.national.com/packaging/folders/ldc08a.html
footprint LDC08A (PSON, 8-Leads, Body 4x4mm, Pitch 0.8mm, NSC Recommended)
pins: 1 SD (in), 2 BYPASS, 3 +IN (in), 4 -IN (in), 5 VO1 (out), 6 VDD (power), 7 GND (power), 8 VO2 (out), 9 DAP (power)

## LM4991LD/NOPB
designator U?
3W Audio Power Amplifier with Shutdown Mode, 8-pin LLP, Pb-Free; PartNumber: LM4991LD/NOPB; Manufacturer: National Semiconductor; PackageTopMarking: NS*UZXYTT*L4991; PowerWise: N; CompType: Audio IC; High-Reliability: Y; DatasheetVersion: May-2003; PackageVersion: revB, Jun-2003; PackageReference: LDC08A; PackageDescription: LLP, Plastic, Dual, 4 x 4 x 0.75mm Body, 8 Lead, 0.8mm Pitch; RoHS: Y; PinCount: 8; ComponentLink1Description: Manufacturer URL; ComponentLink1URL: http://www.national.com/; ComponentLink2Description: LM4991 Datasheet; ComponentLink2URL: http://www.national.com/ds/LM/LM4991.pdf; ComponentLink3Description: LM4991 Web Page; ComponentLink3URL: http://www.national.com/pf/LM/LM4991.html; ComponentLink4Description: LDC08A Package Page; ComponentLink4URL: http://www.national.com/packaging/folders/ldc08a.html
footprint LDC08A (PSON, 8-Leads, Body 4x4mm, Pitch 0.8mm, NSC Recommended)
pins: 1 SD (in), 2 BYPASS, 3 +IN (in), 4 -IN (in), 5 VO1 (out), 6 VDD (power), 7 GND (power), 8 VO2 (out), 9 DAP (power)

## LM4991LDX
designator U?
3W Audio Power Amplifier with Shutdown Mode, 8-pin LLP; PartNumber: LM4991LDX; Manufacturer: National Semiconductor; PackageTopMarking: NS*UZXYTT*L4991; PowerWise: N; CompType: Audio IC; High-Reliability: Y; DatasheetVersion: May-2003; PackageVersion: revB, Jun-2003; PackageReference: LDC08A; PackageDescription: LLP, Plastic, Dual, 4 x 4 x 0.75mm Body, 8 Lead, 0.8mm Pitch; RoHS: N; PinCount: 8; ComponentLink1Description: Manufacturer URL; ComponentLink1URL: http://www.national.com/; ComponentLink2Description: LM4991 Datasheet; ComponentLink2URL: http://www.national.com/ds/LM/LM4991.pdf; ComponentLink3Description: LM4991 Web Page; ComponentLink3URL: http://www.national.com/pf/LM/LM4991.html; ComponentLink4Description: LDC08A Package Page; ComponentLink4URL: http://www.national.com/packaging/folders/ldc08a.html
footprint LDC08A (PSON, 8-Leads, Body 4x4mm, Pitch 0.8mm, NSC Recommended)
pins: 1 SD (in), 2 BYPASS, 3 +IN (in), 4 -IN (in), 5 VO1 (out), 6 VDD (power), 7 GND (power), 8 VO2 (out), 9 DAP (power)

## LM4991MA
designator U?
3W Audio Power Amplifier with Shutdown Mode, 8-pin Narrow SOIC; PartNumber: LM4991MA; Manufacturer: National Semiconductor; PackageTopMarking: NSZXTT*LM49*91MA; PowerWise: N; CompType: Audio IC; High-Reliability: Y; DatasheetVersion: May-2003; PackageVersion: revM, May-2009; PackageReference: M08A; PackageDescription: SOIC Narrow, 4.9 x 3.9 x 1.45mm, 8 Lead, 1.27mm Pitch; RoHS: N; PinCount: 8; Code_JEDEC: MS-012-AA; Code_IPC: SOIC127P600-8; ComponentLink1Description: Manufacturer URL; ComponentLink1URL: http://www.national.com/; ComponentLink2Description: LM4991 Datasheet; ComponentLink2URL: http://www.national.com/ds/LM/LM4991.pdf; ComponentLink3Description: LM4991 Web Page; ComponentLink3URL: http://www.national.com/pf/LM/LM4991.html; ComponentLink4Description: M08A Package Page; ComponentLink4URL: http://www.national.com/packaging/folders/m08a.html
footprint M08A_N (SOIC, 8-Leads, Body 4.9x3.9mm, Pitch 1.27mm, IPC Medium Density)
footprint M08A_L (SOIC, 8-Leads, Body 4.9x3.9mm, Pitch 1.27mm, IPC High Density)
footprint M08A_M (SOIC, 8-Leads, Body 4.9x3.9mm, Pitch 1.27mm, IPC Low Density)
pins: 1 SD (in), 2 BYPASS, 3 +IN (in), 4 -IN (in), 5 VO1 (out), 6 VDD (power), 7 GND (power), 8 VO2 (out)

## LM4991MA/NOPB
designator U?
3W Audio Power Amplifier with Shutdown Mode, 8-pin Narrow SOIC, Pb-Free; PartNumber: LM4991MA/NOPB; Manufacturer: National Semiconductor; PackageTopMarking: NSZXTT*LM49*91MA; PowerWise: N; CompType: Audio IC; High-Reliability: Y; DatasheetVersion: May-2003; PackageVersion: revM, May-2009; PackageReference: M08A; PackageDescription: SOIC Narrow, 4.9 x 3.9 x 1.45mm, 8 Lead, 1.27mm Pitch; RoHS: Y; PinCount: 8; Code_JEDEC: MS-012-AA; Code_IPC: SOIC127P600-8; ComponentLink1Description: Manufacturer URL; ComponentLink1URL: http://www.national.com/; ComponentLink2Description: LM4991 Datasheet; ComponentLink2URL: http://www.national.com/ds/LM/LM4991.pdf; ComponentLink3Description: LM4991 Web Page; ComponentLink3URL: http://www.national.com/pf/LM/LM4991.html; ComponentLink4Description: M08A Package Page; ComponentLink4URL: http://www.national.com/packaging/folders/m08a.html
footprint M08A_N (SOIC, 8-Leads, Body 4.9x3.9mm, Pitch 1.27mm, IPC Medium Density)
footprint M08A_L (SOIC, 8-Leads, Body 4.9x3.9mm, Pitch 1.27mm, IPC High Density)
footprint M08A_M (SOIC, 8-Leads, Body 4.9x3.9mm, Pitch 1.27mm, IPC Low Density)
pins: 1 SD (in), 2 BYPASS, 3 +IN (in), 4 -IN (in), 5 VO1 (out), 6 VDD (power), 7 GND (power), 8 VO2 (out)

## LM4991MAX
designator U?
3W Audio Power Amplifier with Shutdown Mode, 8-pin Narrow SOIC; PartNumber: LM4991MAX; Manufacturer: National Semiconductor; PackageTopMarking: NSZXTT*LM49*91MA; PowerWise: N; CompType: Audio IC; High-Reliability: Y; DatasheetVersion: May-2003; PackageVersion: revM, May-2009; PackageReference: M08A; PackageDescription: SOIC Narrow, 4.9 x 3.9 x 1.45mm, 8 Lead, 1.27mm Pitch; RoHS: N; PinCount: 8; Code_JEDEC: MS-012-AA; Code_IPC: SOIC127P600-8; ComponentLink1Description: Manufacturer URL; ComponentLink1URL: http://www.national.com/; ComponentLink2Description: LM4991 Datasheet; ComponentLink2URL: http://www.national.com/ds/LM/LM4991.pdf; ComponentLink3Description: LM4991 Web Page; ComponentLink3URL: http://www.national.com/pf/LM/LM4991.html; ComponentLink4Description: M08A Package Page; ComponentLink4URL: http://www.national.com/packaging/folders/m08a.html
footprint M08A_N (SOIC, 8-Leads, Body 4.9x3.9mm, Pitch 1.27mm, IPC Medium Density)
footprint M08A_L (SOIC, 8-Leads, Body 4.9x3.9mm, Pitch 1.27mm, IPC High Density)
footprint M08A_M (SOIC, 8-Leads, Body 4.9x3.9mm, Pitch 1.27mm, IPC Low Density)
pins: 1 SD (in), 2 BYPASS, 3 +IN (in), 4 -IN (in), 5 VO1 (out), 6 VDD (power), 7 GND (power), 8 VO2 (out)

## LM4992SD
designator U?
420mW Stereo Cell Phone Audio Amplifier, 15-pin LLP; PartNumber: LM4992SD; Manufacturer: National Semiconductor; PackageTopMarking: ZXYTTE#*L4992; PowerWise: N; CompType: Audio IC; High-Reliability: Y; DatasheetVersion: Feb-2004; PackageVersion: revA, Jun-2003; PackageReference: SDA14A; PackageDescription: LLP, Plastic, Dual, 4 x 3 x 0.8mm Body, 14 Lead, 0.5mm Pitch, No Pullback; RoHS: N; PinCount: 14; ComponentLink1Description: Manufacturer URL; ComponentLink1URL: http://www.national.com/; ComponentLink2Description: LM4992 Datasheet; ComponentLink2URL: http://www.national.com/ds/LM/LM4992.pdf; ComponentLink3Description: LM4992 Web Page; ComponentLink3URL: http://www.national.com/pf/LM/LM4992.html; ComponentLink4Description: SDA14A Package Page; ComponentLink4URL: http://www.national.com/packaging/folders/sda14a.html
footprint SDA14A (SON, 14-Leads, Body 4x3mm, Pitch 0.5mm, NSC Recommended)
pins: 1 IN1+ (in), 2 IN1- (in), 3 VO1- (out), 4 VDD (power), 5 VO2- (out), 6 IN2- (in), 7 IN2+ (in), 8 BYPASS2, 9 SD2 (in), 10 VO2+ (out), 11 GND (power), 12 VO1+ (out), 13 SD1 (in), 14 BYPASS1, 15 DAP (power)

## LM4992SD/NOPB
designator U?
420mW Stereo Cell Phone Audio Amplifier, 14-pin LLP, Pb-Free; PartNumber: LM4992SD/NOPB; Manufacturer: National Semiconductor; PackageTopMarking: ZXYTTE#*L4992; PowerWise: N; CompType: Audio IC; High-Reliability: Y; DatasheetVersion: Feb-2004; PackageVersion: revA, Jun-2003; PackageReference: SDA14A; PackageDescription: LLP, Plastic, Dual, 4 x 3 x 0.8mm Body, 14 Lead, 0.5mm Pitch, No Pullback; RoHS: Y; PinCount: 14; ComponentLink1Description: Manufacturer URL; ComponentLink1URL: http://www.national.com/; ComponentLink2Description: LM4992 Datasheet; ComponentLink2URL: http://www.national.com/ds/LM/LM4992.pdf; ComponentLink3Description: LM4992 Web Page; ComponentLink3URL: http://www.national.com/pf/LM/LM4992.html; ComponentLink4Description: SDA14A Package Page; ComponentLink4URL: http://www.national.com/packaging/folders/sda14a.html
footprint SDA14A (SON, 14-Leads, Body 4x3mm, Pitch 0.5mm, NSC Recommended)
pins: 1 IN1+ (in), 2 IN1- (in), 3 VO1- (out), 4 VDD (power), 5 VO2- (out), 6 IN2- (in), 7 IN2+ (in), 8 BYPASS2, 9 SD2 (in), 10 VO2+ (out), 11 GND (power), 12 VO1+ (out), 13 SD1 (in), 14 BYPASS1, 15 DAP (power)

## LM4992SDX
designator U?
420mW Stereo Cell Phone Audio Amplifier, 14-pin LLP; PartNumber: LM4992SDX; Manufacturer: National Semiconductor; PackageTopMarking: ZXYTTE#*L4992; PowerWise: N; CompType: Audio IC; High-Reliability: Y; DatasheetVersion: Feb-2004; PackageVersion: revA, Jun-2003; PackageReference: SDA14A; PackageDescription: LLP, Plastic, Dual, 4 x 3 x 0.8mm Body, 14 Lead, 0.5mm Pitch, No Pullback; RoHS: N; PinCount: 14; ComponentLink1Description: Manufacturer URL; ComponentLink1URL: http://www.national.com/; ComponentLink2Description: LM4992 Datasheet; ComponentLink2URL: http://www.national.com/ds/LM/LM4992.pdf; ComponentLink3Description: LM4992 Web Page; ComponentLink3URL: http://www.national.com/pf/LM/LM4992.html; ComponentLink4Description: SDA14A Package Page; ComponentLink4URL: http://www.national.com/packaging/folders/sda14a.html
footprint SDA14A (SON, 14-Leads, Body 4x3mm, Pitch 0.5mm, NSC Recommended)
pins: 1 IN1+ (in), 2 IN1- (in), 3 VO1- (out), 4 VDD (power), 5 VO2- (out), 6 IN2- (in), 7 IN2+ (in), 8 BYPASS2, 9 SD2 (in), 10 VO2+ (out), 11 GND (power), 12 VO1+ (out), 13 SD1 (in), 14 BYPASS1, 15 DAP (power)

## LM4995SD
designator U?
1.3W Audio Power Amplifier, 9-pin LLP; PartNumber: LM4995SD; Manufacturer: National Semiconductor; PackageTopMarking: ZXYTT*L4995; PowerWise: N; CompType: Audio IC; High-Reliability: Y; DatasheetVersion: Nov-2009; PackageVersion: revA, Aug-2003; PackageReference: SDA08A; PackageDescription: LLP, Plastic, Dual, 3 x 3 x 0.8mm Body, 8 Lead, 0.5mm Pitch, No Pullback; RoHS: Y; PinCount: 8; ComponentLink1Description: Manufacturer URL; ComponentLink1URL: http://www.national.com/; ComponentLink2Description: LM4995 Datasheet; ComponentLink2URL: http://www.national.com/ds/LM/LM4995.pdf; ComponentLink3Description: LM4995 Web Page; ComponentLink3URL: http://www.national.com/pf/LM/LM4995.html; ComponentLink4Description: SDA08A Package Page; ComponentLink4URL: http://www.national.com/packaging/folders/sda08a.html
footprint SDA08A (SON, 8-Leads, Body 3x3mm, Pitch 0.5mm, NSC Recommended)
pins: 1 SD (in), 2 BYPASS, 3 +IN (in), 4 -IN (in), 5 VO1 (out), 6 VDD (power), 7 GND (power), 8 VO2 (out), 9 DAP (power)

## LM4995SD/NOPB
designator U?
1.3W Audio Power Amplifier, 8-pin LLP, Pb-Free; PartNumber: LM4995SD/NOPB; Manufacturer: National Semiconductor; PackageTopMarking: ZXYTT*L4995; PowerWise: N; CompType: Audio IC; High-Reliability: Y; DatasheetVersion: Nov-2009; PackageVersion: revA, Aug-2003; PackageReference: SDA08A; PackageDescription: LLP, Plastic, Dual, 3 x 3 x 0.8mm Body, 8 Lead, 0.5mm Pitch, No Pullback; RoHS: Y; PinCount: 8; ComponentLink1Description: Manufacturer URL; ComponentLink1URL: http://www.national.com/; ComponentLink2Description: LM4995 Datasheet; ComponentLink2URL: http://www.national.com/ds/LM/LM4995.pdf; ComponentLink3Description: LM4995 Web Page; ComponentLink3URL: http://www.national.com/pf/LM/LM4995.html; ComponentLink4Description: SDA08A Package Page; ComponentLink4URL: http://www.national.com/packaging/folders/sda08a.html
footprint SDA08A (SON, 8-Leads, Body 3x3mm, Pitch 0.5mm, NSC Recommended)
pins: 1 SD (in), 2 BYPASS, 3 +IN (in), 4 -IN (in), 5 VO1 (out), 6 VDD (power), 7 GND (power), 8 VO2 (out), 9 DAP (power)

## LM4995TM
designator U?
1.3W Audio Power Amplifier, 9-pin Micro SMD; PartNumber: LM4995TM; Manufacturer: National Semiconductor; PackageTopMarking: XVG*I G8; PowerWise: Y; CompType: Audio IC; DatasheetVersion: Nov-2009; PackageVersion: revA, May-2005; PackageReference: TMD09AAA; PackageDescription: Thin Micro SMD, 9 Bump, 0.4mm Pitch; RoHS: Y; PinCount: 9; High-Reliability: Y; ComponentLink1Description: Manufacturer URL; ComponentLink1URL: http://www.national.com/; ComponentLink2Description: LM4995 Datasheet; ComponentLink2URL: http://www.national.com/ds/LM/LM4995.pdf; ComponentLink3Description: LM4995 Web Page; ComponentLink3URL: http://www.national.com/pf/LM/LM4995.html; ComponentLink4Description: TMD09AAA Package Page; ComponentLink4URL: http://www.national.com/packaging/folders/tmd09aaa.html
footprint TMD09AAA (Micro SMD, 9-Leads, Body 1.22x1.22mm, Pitch 0.4mm, NSC Recommended)
pins: A1 BYPASS, A2 GND (power), A3 -IN (in), B1 VO2 (out), B2 GND (power), B3 VO1 (out), C1 ~{SD} (in), C2 VDD (power), C3 +IN (in)

## LM4995TM/NOPB
designator U?
1.3W Audio Power Amplifier, 9-pin Micro SMD, Pb-Free; PartNumber: LM4995TM/NOPB; Manufacturer: National Semiconductor; PackageTopMarking: XVG*I G8; PowerWise: Y; CompType: Audio IC; DatasheetVersion: Nov-2009; PackageVersion: revA, May-2005; PackageReference: TMD09AAA; PackageDescription: Thin Micro SMD, 9 Bump, 0.4mm Pitch; RoHS: Y; PinCount: 9; High-Reliability: Y; ComponentLink1Description: Manufacturer URL; ComponentLink1URL: http://www.national.com/; ComponentLink2Description: LM4995 Datasheet; ComponentLink2URL: http://www.national.com/ds/LM/LM4995.pdf; ComponentLink3Description: LM4995 Web Page; ComponentLink3URL: http://www.national.com/pf/LM/LM4995.html; ComponentLink4Description: TMD09AAA Package Page; ComponentLink4URL: http://www.national.com/packaging/folders/tmd09aaa.html
footprint TMD09AAA (Micro SMD, 9-Leads, Body 1.22x1.22mm, Pitch 0.4mm, NSC Recommended)
pins: A1 BYPASS, A2 GND (power), A3 -IN (in), B1 VO2 (out), B2 GND (power), B3 VO1 (out), C1 ~{SD} (in), C2 VDD (power), C3 +IN (in)

## LM4995TMX/NOPB
designator U?
1.3W Audio Power Amplifier, 9-pin Micro SMD, Pb-Free; PartNumber: LM4995TMX/NOPB; Manufacturer: National Semiconductor; PackageTopMarking: XVG*I G8; PowerWise: Y; CompType: Audio IC; DatasheetVersion: Nov-2009; PackageVersion: revA, May-2005; PackageReference: TMD09AAA; PackageDescription: Thin Micro SMD, 9 Bump, 0.4mm Pitch; RoHS: Y; PinCount: 9; High-Reliability: Y; ComponentLink1Description: Manufacturer URL; ComponentLink1URL: http://www.national.com/; ComponentLink2Description: LM4995 Datasheet; ComponentLink2URL: http://www.national.com/ds/LM/LM4995.pdf; ComponentLink3Description: LM4995 Web Page; ComponentLink3URL: http://www.national.com/pf/LM/LM4995.html; ComponentLink4Description: TMD09AAA Package Page; ComponentLink4URL: http://www.national.com/packaging/folders/tmd09aaa.html
footprint TMD09AAA (Micro SMD, 9-Leads, Body 1.22x1.22mm, Pitch 0.4mm, NSC Recommended)
pins: A1 BYPASS, A2 GND (power), A3 -IN (in), B1 VO2 (out), B2 GND (power), B3 VO1 (out), C1 ~{SD} (in), C2 VDD (power), C3 +IN (in)

## LM48100QMH
designator U?
Mono, 1.3W Audio Power Amplifier with Output Fault Detection and Volume Control, 15-pin TSSOP-EP; PartNumber: LM48100QMH; Manufacturer: National Semiconductor; PackageTopMarking: NSUZXYTT*L48100Q; PowerWise: Y; CompType: Audio IC; DatasheetVersion: Nov-2008; PackageVersion: revA, Feb-2003; PackageReference: MXA14A; PackageDescription: Molded TSSOP, JEDEC, Exposed Pad, 5.0 x 4.4 x 0.9mm Body, 14 Lead, 0.65mm Pitch; RoHS: Y; PinCount: 14; High-Reliability: Y; Code_JEDEC: MO-153-ABT-1; ComponentLink1Description: Manufacturer URL; ComponentLink1URL: http://www.national.com/; ComponentLink2Description: LM48100Q Datasheet; ComponentLink2URL: http://www.national.com/ds/LM/LM48100Q.pdf; ComponentLink3Description: LM48100Q Web Page; ComponentLink3URL: http://www.national.com/pf/LM/LM48100Q.html; ComponentLink4Description: MXA14A Package Page; ComponentLink4URL: http://www.national.com/packaging/folders/mxa14a.html
footprint MXA14A_N (TSOP, 14-Leads, Body 5x4.4mm, Pitch 0.65mm, Thermal Pad, IPC Medium Density)
footprint MXA14A_L (TSOP, 14-Leads, Body 5x4.4mm, Pitch 0.65mm, Thermal Pad, IPC High Density)
footprint MXA14A_M (TSOP, 14-Leads, Body 5x4.4mm, Pitch 0.65mm, Thermal Pad, IPC Low Density)
pins: 1 ~{FAULT} (oc), 2 SCL (in), 3 SDA (in), 4 I2CVDD (power), 5 GND (power), 6 ADR (in), 7 OUTA (out), 8 PGND (power), 9 OUTB (out), 10 PVDD (power), 11 IN2 (in), 12 IN1 (in), 13 BIAS, 14 VDD (power), 15 EP

## LM48100QMHE/NOPB
designator U?
Mono, 1.3W Audio Power Amplifier with Output Fault Detection and Volume Control, 14-pin TSSOP-EP, Pb-Free; PartNumber: LM48100QMHE/NOPB; Manufacturer: National Semiconductor; PackageTopMarking: NSUZXYTT*L48100Q; PowerWise: Y; CompType: Audio IC; DatasheetVersion: Nov-2008; PackageVersion: revA, Feb-2003; PackageReference: MXA14A; PackageDescription: Molded TSSOP, JEDEC, Exposed Pad, 5.0 x 4.4 x 0.9mm Body, 14 Lead, 0.65mm Pitch; RoHS: Y; PinCount: 14; High-Reliability: Y; Code_JEDEC: MO-153-ABT-1; ComponentLink1Description: Manufacturer URL; ComponentLink1URL: http://www.national.com/; ComponentLink2Description: LM48100Q Datasheet; ComponentLink2URL: http://www.national.com/ds/LM/LM48100Q.pdf; ComponentLink3Description: LM48100Q Web Page; ComponentLink3URL: http://www.national.com/pf/LM/LM48100Q.html; ComponentLink4Description: MXA14A Package Page; ComponentLink4URL: http://www.national.com/packaging/folders/mxa14a.html
footprint MXA14A_N (TSOP, 14-Leads, Body 5x4.4mm, Pitch 0.65mm, Thermal Pad, IPC Medium Density)
footprint MXA14A_L (TSOP, 14-Leads, Body 5x4.4mm, Pitch 0.65mm, Thermal Pad, IPC High Density)
footprint MXA14A_M (TSOP, 14-Leads, Body 5x4.4mm, Pitch 0.65mm, Thermal Pad, IPC Low Density)
pins: 1 ~{FAULT} (oc), 2 SCL (in), 3 SDA (in), 4 I2CVDD (power), 5 GND (power), 6 ADR (in), 7 OUTA (out), 8 PGND (power), 9 OUTB (out), 10 PVDD (power), 11 IN2 (in), 12 IN1 (in), 13 BIAS, 14 VDD (power), 15 EP

## LM48100QMHX/NOPB
designator U?
Mono, 1.3W Audio Power Amplifier with Output Fault Detection and Volume Control, 14-pin TSSOP-EP, Pb-Free; PartNumber: LM48100QMHX/NOPB; Manufacturer: National Semiconductor; PackageTopMarking: NSUZXYTT*L48100Q; PowerWise: Y; CompType: Audio IC; DatasheetVersion: Nov-2008; PackageVersion: revA, Feb-2003; PackageReference: MXA14A; PackageDescription: Molded TSSOP, JEDEC, Exposed Pad, 5.0 x 4.4 x 0.9mm Body, 14 Lead, 0.65mm Pitch; RoHS: Y; PinCount: 14; High-Reliability: Y; Code_JEDEC: MO-153-ABT-1; ComponentLink1Description: Manufacturer URL; ComponentLink1URL: http://www.national.com/; ComponentLink2Description: LM48100Q Datasheet; ComponentLink2URL: http://www.national.com/ds/LM/LM48100Q.pdf; ComponentLink3Description: LM48100Q Web Page; ComponentLink3URL: http://www.national.com/pf/LM/LM48100Q.html; ComponentLink4Description: MXA14A Package Page; ComponentLink4URL: http://www.national.com/packaging/folders/mxa14a.html
footprint MXA14A_N (TSOP, 14-Leads, Body 5x4.4mm, Pitch 0.65mm, Thermal Pad, IPC Medium Density)
footprint MXA14A_L (TSOP, 14-Leads, Body 5x4.4mm, Pitch 0.65mm, Thermal Pad, IPC High Density)
footprint MXA14A_M (TSOP, 14-Leads, Body 5x4.4mm, Pitch 0.65mm, Thermal Pad, IPC Low Density)
pins: 1 ~{FAULT} (oc), 2 SCL (in), 3 SDA (in), 4 I2CVDD (power), 5 GND (power), 6 ADR (in), 7 OUTA (out), 8 PGND (power), 9 OUTB (out), 10 PVDD (power), 11 IN2 (in), 12 IN1 (in), 13 BIAS, 14 VDD (power), 15 EP

## LM48310SD
designator U?
Ultra-Low EMI, Filterless, 2.6W, Mono, Class D Audio Power Amplifier with E2S, 11-pin LLP; PartNumber: LM48310SD; Manufacturer: National Semiconductor; PackageTopMarking: ZXYTT*GI8; PowerWise: Y; CompType: Audio IC; DatasheetVersion: Jun-2008; PackageVersion: revA, Oct-2003; PackageReference: SDA10A; PackageDescription: LLP, Plastic, Dual, 3 x 3 x 0.8mm Body, 10 Lead, 0.5mm Pitch, No Pullback; RoHS: Y; PinCount: 10; High-Reliability: Y; ComponentLink1Description: Manufacturer URL; ComponentLink1URL: http://www.national.com/; ComponentLink2Description: LM48310 Datasheet; ComponentLink2URL: http://www.national.com/ds/LM/LM48310.pdf; ComponentLink3Description: LM48310 Web Page; ComponentLink3URL: http://www.national.com/pf/LM/LM48310.html; ComponentLink4Description: SDA10A Package Page; ComponentLink4URL: http://www.national.com/packaging/folders/sda10a.html
footprint SDA10A (SON, 10-Leads, Body 3x3 mm, Pitch 0.5mm, NSC Recommended)
pins: 1 IN+ (in), 2 IN- (in), 3 VDD (power), 4 ~{SD} (in), 5 SYNC (in), 6 SYNCOUT (out), 7 OUTB (out), 8 GND (power), 9 PVDD (power), 10 OUTA (out), 11 DAP (power)

## LM48310SD/NOPB
designator U?
Ultra-Low EMI, Filterless, 2.6W, Mono, Class D Audio Power Amplifier with E2S, 10-pin LLP, Pb-Free; PartNumber: LM48310SD/NOPB; Manufacturer: National Semiconductor; PackageTopMarking: ZXYTT*GI8; PowerWise: Y; CompType: Audio IC; DatasheetVersion: Jun-2008; PackageVersion: revA, Oct-2003; PackageReference: SDA10A; PackageDescription: LLP, Plastic, Dual, 3 x 3 x 0.8mm Body, 10 Lead, 0.5mm Pitch, No Pullback; RoHS: Y; PinCount: 10; High-Reliability: Y; ComponentLink1Description: Manufacturer URL; ComponentLink1URL: http://www.national.com/; ComponentLink2Description: LM48310 Datasheet; ComponentLink2URL: http://www.national.com/ds/LM/LM48310.pdf; ComponentLink3Description: LM48310 Web Page; ComponentLink3URL: http://www.national.com/pf/LM/LM48310.html; ComponentLink4Description: SDA10A Package Page; ComponentLink4URL: http://www.national.com/packaging/folders/sda10a.html
footprint SDA10A (SON, 10-Leads, Body 3x3 mm, Pitch 0.5mm, NSC Recommended)
pins: 1 IN+ (in), 2 IN- (in), 3 VDD (power), 4 ~{SD} (in), 5 SYNC (in), 6 SYNCOUT (out), 7 OUTB (out), 8 GND (power), 9 PVDD (power), 10 OUTA (out), 11 DAP (power)

## LM48310SDX/NOPB
designator U?
Ultra-Low EMI, Filterless, 2.6W, Mono, Class D Audio Power Amplifier with E2S, 10-pin LLP, Pb-Free; PartNumber: LM48310SDX/NOPB; Manufacturer: National Semiconductor; PackageTopMarking: ZXYTT*GI8; PowerWise: Y; CompType: Audio IC; DatasheetVersion: Jun-2008; PackageVersion: revA, Oct-2003; PackageReference: SDA10A; PackageDescription: LLP, Plastic, Dual, 3 x 3 x 0.8mm Body, 10 Lead, 0.5mm Pitch, No Pullback; RoHS: Y; PinCount: 10; High-Reliability: Y; ComponentLink1Description: Manufacturer URL; ComponentLink1URL: http://www.national.com/; ComponentLink2Description: LM48310 Datasheet; ComponentLink2URL: http://www.national.com/ds/LM/LM48310.pdf; ComponentLink3Description: LM48310 Web Page; ComponentLink3URL: http://www.national.com/pf/LM/LM48310.html; ComponentLink4Description: SDA10A Package Page; ComponentLink4URL: http://www.national.com/packaging/folders/sda10a.html
footprint SDA10A (SON, 10-Leads, Body 3x3 mm, Pitch 0.5mm, NSC Recommended)
pins: 1 IN+ (in), 2 IN- (in), 3 VDD (power), 4 ~{SD} (in), 5 SYNC (in), 6 SYNCOUT (out), 7 OUTB (out), 8 GND (power), 9 PVDD (power), 10 OUTA (out), 11 DAP (power)

## LM48311TL/NOPB
designator U?
Ultra-Low EMI, Filterless, 2.6W, Mono, Class D Audio Power Amplifier with E2S, 9-pin Micro SMD, Pb-Free; PartNumber: LM48311TL/NOPB; Manufacturer: National Semiconductor; PackageTopMarking: XVG*I N1; PowerWise: Y; CompType: Audio IC; DatasheetVersion: Jun-2009; PackageVersion: revC, Jan-2004; PackageReference: TLA09BCA; PackageDescription: Thin Micro SMD, 9 Bump (Large), 0.5mm Pitch; RoHS: Y; PinCount: 9; High-Reliability: Y; Code_JEDEC: MO-211-DD; ComponentLink1Description: Manufacturer URL; ComponentLink1URL: http://www.national.com/; ComponentLink2Description: LM48311 Datasheet; ComponentLink2URL: http://www.national.com/ds/LM/LM48311.pdf; ComponentLink3Description: LM48311 Web Page; ComponentLink3URL: http://www.national.com/pf/LM/LM48311.html; ComponentLink4Description: TLA09BCA Package Page; ComponentLink4URL: http://www.national.com/packaging/folders/tla09bca.html
footprint TLA09BCA (Micro SMD, 9-Leads, Body 1.57x1.54mm, Pitch 0.5mm, NSC Recommended)
pins: A1 IN+ (in), A2 ~{SD} (in), A3 OUTA (out), B1 VDD (power), B2 PVDD (power), B3 PGND (power), C1 IN- (in), C2 GND (power), C3 OUTB (out)